# Altium schematic symbol library CONN_FPC_2X18_0MM5.SchLib: 1 symbol
Pins are listed as number, name and electrical type; pins without a type are passive.

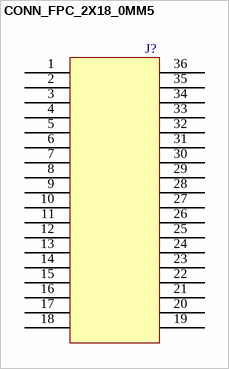
[diagram p0: symbol CONN_FPC_2X18_0MM5]

## CONN_FPC_2X18_0MM5
designator J?, comment XF2M-3615-1A  (value not drawn)
FPC Connector - FPC Side. 0.5 mm pitch / Compatible with XF2M-3615-1A; GRAMS Lib Spec: 2.7
footprint CONN_FPC_2X18_0MM5 (Compatible with XF2M-3615-1A / 0.5 mm pitch, 2X18)
pins: 1, 2, 3, 4, 5, 6, 7, 8, 9, 10, 11, 12, 13, 14, 15, 16, 17, 18, 19, 20, 21, 22, 23, 24, 25, 26, 27, 28, 29, 30, 31, 32, 33, 34, 35, 36